# Altium schematic symbol library Capacitors.SchLib: 104 symbols (part 1 of 2)
Pins are listed as number, name and electrical type; pins without a type are passive.

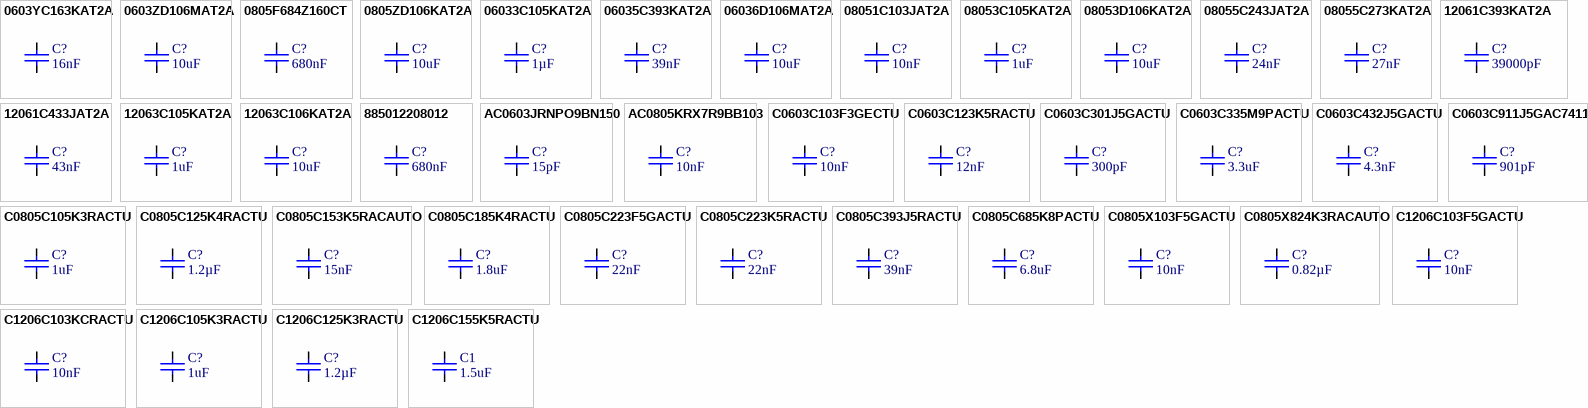
[diagram p0: symbols 0603YC163KAT2A to C1206C155K5RACTU]

## 0603YC163KAT2A
designator C?, comment 16nF
CAP MLCC, 16nF, 16V, 0603 [1608 metric], ±10%, X7R; Manufacturer: AVX; Manufacturer Part Number: 0603YC163KAT2A; Value: 16nF; Package: CAP 0603 [1608 metric]; Supplier 1: Mouser; Supplier Part Number 1: 581-0603YC163KAT2A; ComponentLink1Description: Datasheet; ComponentLink1URL: https://eu.mouser.com/ProductDetail/AVX/0603YC163KAT2A/?qs=gEbkM7q0lx%2FiqWf%2Fv%252BwDUg%3D%3D; Voltage: 16V; Tolerance: ±10%; Dielectric: X7R
footprint CAPC1608N (Chip Capacitor, Body 1.6x0.8mm, Height 0.55mm, IPC Medium Density)
pins: 1, 2

## 0603ZD106MAT2A
designator C?, comment 10uF
CAP MLCC, 10uF, 10V, 0603 [1608 Metric], ±20%, X5R; Manufacturer: AVX; Manufacturer Part Number: 0603ZD106MAT2A; Value: 10uF; Package: 0603 [1608 Metric]; Supplier 1: Farnell; Supplier Part Number 1: 1867954; ComponentLink1Description: Datasheet; ComponentLink1URL: http://www.farnell.com/datasheets/2237828.pdf; Voltage: 10V; Tolerance: ± 20%; Dielectric: X5R; Mounting: SMD; Part Type: MLCC
footprint CAPC1608N (Footprint not found)
pins: 1, 2

## 0805F684Z160CT
designator C?, comment 680nF
CAP MLCC, 680nF, 16V, 0805 [2012 Metric], +80%, -20%, Y5V; Manufacturer: WALSIN; Manufacturer Part Number: 0805F684Z160CT; Value: 680nF; Package: 0805 [2012 Metric]; Supplier 1: Farnell; Supplier Part Number 1: 2495504; ComponentLink1Description: Datasheet; ComponentLink1URL: https://lt.farnell.com/walsin/0805f684z160ct/cap-0-68-f-16v-y5v-0805-reel/dp/2495504; Voltage: 16V; Tolerance: +80%, -20%; Dielectric: Y5V; Mounting: SMD; Part Type: MLCC
footprint CAPC2012N (Chip Capacitor, Body 2.0x1.25mm, IPC Medium Density)
pins: 1, 2

## 0805ZD106KAT2A
designator C?, comment 10uF
CAP MLCC, 10uF, 10V, 0805 [2012 Metric], ±10%, X5R; Manufacturer: AVX; Manufacturer Part Number: 0805ZD106KAT2A; Value: 10uF; Package: 0805 [2012 Metric]; Supplier 1: Farnell; Supplier Part Number 1: 1833812; ComponentLink1Description: Datasheet; ComponentLink1URL: http://www.farnell.com/datasheets/2237828.pdf; Voltage: 10V; Tolerance: ± 10%; Dielectric: X5R; Mounting: SMD; Part Type: MLCC
footprint CAPC2012N (Chip Capacitor, Body 2.0x1.25mm, IPC Medium Density)
pins: 1, 2

## 06033C105KAT2A
designator C?, comment 1µF
CAP MLCC, 1uF, 25V, 0603 [1608 Metric], ±10%, X7R; Manufacturer: AVX; Manufacturer Part Number: 06033C105KAT2A; Value: 1µF; Package: 0603 [1608 Metric]; Supplier 1: Farnell; Supplier Part Number 1: 2749807; ComponentLink1Description: http://www.farnell.com/datasheets/2260754.pdf; ComponentLink1URL: https://lt.farnell.com/avx/06033c105kat2a/cap-1-f-25v-10-x7r-0603/dp/2749807?st=cap%20mlcc,%20750nf,%2025v,%200603%20[1608%20metric],%20±10%25,%20x7r; Voltage: 25V; Tolerance: ± 10%; Dielectric: X7R; Mounting: SMD; Part Type: MLCC
footprint CAPC1608N (Chip Capacitor, Body 1.6x0.8mm, Height 0.55mm, IPC Medium Density)
pins: 1, 2

## 06035C393KAT2A
designator C?, comment 39nF
CAP MLCC, 39nF, 50V, 0603 [1608 Metric], ± 10%, X7R, AVX 0603 MLCC; Manufacturer Part Number: 06035C393KAT2A; Value: 39nF; Package: CAP 0603 [1608 metric]; Manufacturer: AVX; Supplier 1: Farnell; Supplier Part Number 1: 1740619; ComponentLink1Description: http://www.farnell.com/datasheets/2237835.pdf; ComponentLink1URL: https://uk.farnell.com/avx/06035c393kat2a/cap-0-039-f-50v-10-x7r-0603/dp/1740619#; Voltage: 50V; Tolerance: ± 10%; Dielectric: X7R
footprint CAPC1608N (Chip Capacitor, Body 1.6x0.8mm, Height 0.55mm, IPC Medium Density)
pins: 1, 2

## 06036D106MAT2A
designator C?, comment 10uF
CAP MLCC, 10uF, 6.3V, 0603 [1608 Metric], ±20%, X7R; Manufacturer: AVX; Manufacturer Part Number: 06036D106MAT2A; Value: 10uF; Package: 0603 [1608 Metric]; Supplier 1: Farnell; Supplier Part Number 1: 1833804; ComponentLink1Description: Datasheet; ComponentLink1URL: https://lt.farnell.com/avx/06036d106mat2a/cap-10-f-6-3v-20-x5r-0603/dp/1833804?st=smd%20capacitor; Voltage: 6.3V; Tolerance: ± 20%; Dielectric: X7R; Mounting: SMD; Part Type: MLCC
footprint CAPC1608N (Chip Capacitor, Body 1.6x0.8mm, Height 0.55mm, IPC Medium Density)
pins: 1, 2

## 08051C103JAT2A
designator C?, comment 10nF
CAP MLCC, 10nF, 100V, 0805 [2012 Metric], ±5%, X7R; Manufacturer: AVX; Manufacturer Part Number: 08051C103JAT2A; Value: 10nF; Package: 0805 [2012 Metric]; Supplier 1: Farnell; Supplier Part Number 1: 2332713; ComponentLink1Description: Datasheet; ComponentLink1URL: http://www.farnell.com/datasheets/2237835.pdf; Voltage: 100V; Tolerance: ± 5%; Dielectric: X7R; Mounting: SMD; Part Type: MLCC
footprint CAPC2012N (Chip Capacitor, Body 2.0x1.25mm, IPC Medium Density)
pins: 1, 2

## 08053C105KAT2A
designator C?, comment 1uF
CAP MLCC, 1uF, 25V, 0805 [2012 Metric], ±10%, X7R; Manufacturer: AVX; Manufacturer Part Number: 08053C105KAT2A; Value: 1uF; Package: 0805 [2012 Metric]; Supplier 1: Farnell; Supplier Part Number 1: 1658877; ComponentLink1Description: http://www.farnell.com/datasheets/2237835.pdf; ComponentLink1URL: https://lt.farnell.com/avx/08053c105kat2a/cap-1-f-25v-10-x7r-0805/dp/1658877?st=cap%20mlcc,%20750nf,%2025v,%200805%20[2012%20metric],%20±10%25,%20x7r; Voltage: 25V; Tolerance: ± 10%; Dielectric: X7R; Mounting: SMD; Part Type: MLCC
footprint CAPC2012N (Chip Capacitor, Body 2.0x1.25mm, IPC Medium Density)
pins: 1, 2

## 08053D106KAT2A
designator C?, comment 10uF
CAP MLCC, 10uF, 25V, 0805 [2012 Metric], ±10%, X7R; Manufacturer: AVX; Manufacturer Part Number: 08053D106KAT2A; Value: 10uF; Package: 0805 [2012 Metric]; Supplier 1: Farnell; Supplier Part Number 1: 1867958; ComponentLink1Description: Datasheet; ComponentLink1URL: https://lt.farnell.com/avx/08053d106kat2a/cap-10-f-25v-10-x5r-0805/dp/1867958?st=smd%20capacitor; Voltage: 25V; Tolerance: ± 10%; Dielectric: X7R; Mounting: SMD; Part Type: MLCC
footprint CAPC2012N (Chip Capacitor, Body 2.0x1.25mm, IPC Medium Density)
pins: 1, 2

## 08055C243JAT2A
designator C?, comment 24nF
CAP MLCC, 24nF, 50V, 0805 [2012 Metric], ±5%, X7R; Manufacturer: AVX; Manufacturer Part Number: 08055C243JAT2A; Value: 24nF; Package: 0805 [2012 Metric]; Supplier 1: Mouser; Supplier Part Number 1: 581-08055C243JAT2A; ComponentLink1Description: Datasheet; ComponentLink1URL: https://eu.mouser.com/ProductDetail/AVX/08055C243JAT2A/?qs=sGAEpiMZZMuMW9TJLBQkXsc7mecWxmGaZ7S9zCM%2FAxU%3D; Voltage: 50V; Tolerance: ± 5%; Dielectric: X7R; Mounting: SMD; Part Type: MLCC
footprint CAPC2012N (Footprint not found)
pins: 1, 2

## 08055C273KAT2A
designator C?, comment 27nF
CAP MLCC, 27nF, 50V, 0805 [2012 Metric], ±10%, X7R; Manufacturer: AVX; Manufacturer Part Number: 08055C273KAT2A; Value: 27nF; Package: 0805 [2012 Metric]; Supplier 1: Farnell; Supplier Part Number 1: 2332799; ComponentLink1Description: Datasheet; ComponentLink1URL: http://www.farnell.com/datasheets/2237835.pdf; Voltage: 50V; Tolerance: ± 10%; Dielectric: X7R; Mounting: SMD; Part Type: MLCC
footprint CAPC2012N (Chip Capacitor, Body 2.0x1.25mm, IPC Medium Density)
pins: 1, 2

## 12061C393KAT2A
designator C?, comment 39000pF
CAP MLCC, 39nF, 100V, 1206 [3216 Metric], ± 10%, X7R, AVX 1206 MLCC; Manufacturer Part Number: 12061C393KAT2A; Value: 39000pF; Package: 1206 [3216 metric]; Manufacturer: AVX; Supplier 1: Farnell; Supplier Part Number 1: 1740717RL; ComponentLink1Description: http://www.farnell.com/datasheets/2237835.pdf; ComponentLink1URL: https://uk.farnell.com/avx/12061c393kat2a/cap-0-039-f-100v-10-x7r-1206/dp/1740717#; Voltage: 100V; Tolerance: ± 10%; Dielectric: X7R
footprint CAPC3216N (Chip Capacitor, Body 3.2x1.6mm, IPC Medium Density)
pins: 1, 2

## 12061C433JAT2A
designator C?, comment 43nF
CAP MLCC, 43nF, 100V, 1206 [3216 Metric], ± 5%, X7R; Manufacturer: AVX; Manufacturer Part Number: 12061C433JAT2A; Value: 43nF; Package: 1206 [3216 metric]; Supplier 1: Mouser; Supplier Part Number 1: 581-12061C433JAT2A; ComponentLink1Description: Datasheet; ComponentLink1URL: https://eu.mouser.com/ProductDetail/AVX/12061C433JAT2A?qs=%2Fha2pyFaduhwE6IPDF2HUvDWpTZUyWvSnpCS%252BYvTRJBCSMPxIuiRLQ%3D%3D&utm_source=octopart&utm_medium=aggregator&utm_campaign=581-12061C433JAT2A&utm_content=AVX; Voltage: 100V; Tolerance: 5 %; Dielectric: X7R; Mounting: SMD; Part Type: MLCC
footprint CAPC3216N (Chip Capacitor, Body 3.2x1.6mm, IPC Medium Density)
pins: 1, 2

## 12063C105KAT2A
designator C?, comment 1uF
CAP MLCC, 1uF, 25V, 1206 [3216 Metric], ±10%, X7R; Manufacturer: AVX; Manufacturer Part Number: 12063C105KAT2A; Value: 1uF; Package: 1206 [3216 Metric]; Supplier 1: Farnell; Supplier Part Number 1: 1327717; ComponentLink1Description: https://4donline.ihs.com/images/VipMasterIC/IC/AVXC/AVXC-S-A0004824845/AVXC-S-A0004824845-1.pdf?hkey=6D3A4C79FDBF58556ACFDE234799DDF0; ComponentLink1URL: https://lt.farnell.com/avx/12063c105kat2a/cap-1-f-25v-10-x7r-1206/dp/1327717?st=cap%20mlcc,%20750f,%2025v,%201206%20[3216%20metric],%20±10%25,%20x7r; Voltage: 25V; Tolerance: ± 10%; Dielectric: X7R; Mounting: SMD; Part Type: MLCC
footprint CAPC3216N (Chip Capacitor, Body 3.2x1.6mm, IPC Medium Density)
pins: 1, 2

## 12063C106KAT2A
designator C?, comment 10uF
CAP MLCC, 10uF, 25V, 1206 [3216 Metric], ±10%, X7R; Manufacturer: AVX; Manufacturer Part Number: 12063C106KAT2A; Value: 10uF; Package: 1206 [3216 Metric]; Supplier 1: Farnell; Supplier Part Number 1: 2094044; ComponentLink1Description: Datasheet; ComponentLink1URL: http://www.farnell.com/datasheets/2260753.pdf; Voltage: 25V; Tolerance: ± 10%; Dielectric: X7R; Mounting: SMD; Part Type: MLCC
footprint CAPC3216N (Chip Capacitor, Body 3.2x1.6mm, IPC Medium Density)
pins: 1, 2

## 885012208012
designator C?, comment 680nF
CAP MLCC, 680nF, 10V, 1206 [3216 Metric], ±10%, X7R; Manufacturer: WURTH ELEKTRONIK; Manufacturer Part Number: 885012208012; Value: 680nF; Package: 1206 [3216 Metric]; Supplier 1: Farnell; Supplier Part Number 1: 2812450; ComponentLink1Description: Datasheet; ComponentLink1URL: https://lt.farnell.com/wurth-elektronik/885012208012/cap-0-68-f-10v-10-x7r-1206/dp/2812450; Voltage: 10V; Tolerance: ± 10%; Dielectric: X7R; Mounting: SMD; Part Type: MLCC
footprint CAPC3216N (Chip Capacitor, Body 3.2x1.6mm, IPC Medium Density)
pins: 1, 2

## AC0603JRNPO9BN150
designator C?, comment 15pF
CAP MLCC, 15pF, 50V, 0603 [1608 Metric], ±5%, X7R; Manufacturer: YAGEO; Manufacturer Part Number: AC0603JRNPO9BN150; Value: 15pF; Package: 0603 [1608 Metric]; Supplier 1: Farnell; Supplier Part Number 1: 3368986; ComponentLink1Description: Datasheet; ComponentLink1URL: http://www.farnell.com/datasheets/2899221.pdf; Voltage: 50V; Tolerance: ± 5%; Dielectric: X7R; Mounting: SMD; Part Type: MLCC
footprint CAPC1608N (Footprint not found)
pins: 1, 2

## AC0805KRX7R9BB103
designator C?, comment 10nF
CAP MLCC, 10nF, 50V, 0805 [2012 Metric], ±10%, X7R; Manufacturer: YAGEO; Manufacturer Part Number: AC0805KRX7R9BB103; Value: 10nF; Package: 0805 [2012 Metric]; Supplier 1: Farnell; Supplier Part Number 1: 3369005; ComponentLink1Description: Datasheet; ComponentLink1URL: http://www.farnell.com/datasheets/2899221.pdf; Voltage: 50V; Tolerance: ± 10%; Dielectric: X7R; Mounting: SMD; Part Type: MLCC
footprint CAPC2012N (Footprint not found)
pins: 1, 2

## C0603C103F3GECTU
designator C?, comment 10nF
CAP MLCC, 10nF, 25V, 0603 [1608 metric], ±1%, C0G / NP0; Manufacturer: KEMET; Manufacturer Part Number: C0603C103F3GECTU; Value: 10nF; Package: 0603 [1608 metric]; Supplier 1: Farnell; Supplier Part Number 1: 2991228; ComponentLink1Description: Datasheet; ComponentLink1URL: https://api.kemet.com/component-edge/download/specsheet/C0603C103F3GECTU.pdf; Voltage: 25V; Tolerance: ±1%; Dielectric: C0G / NP0; Mounting: SMD; Part Type: MLCC
footprint CAPC1608N (Chip Capacitor, Body 1.6x0.8mm, Height 0.55mm, IPC Medium Density)
pins: 1, 2

## C0603C123K5RACTU
designator C?, comment 12nF
CAP MLCC, 12nF, 50V, 0603 [1608 Metric], ±10%, X7R; Manufacturer: KEMET; Manufacturer Part Number: C0603C123K5RACTU; Value: 12nF; Package: 0603 [1608 Metric]; Supplier 1: Farnell; Supplier Part Number 1: 1865534; ComponentLink1Description: Datasheet; ComponentLink1URL: https://lt.farnell.com/kemet/c0603c123k5ractu/cap-0-012-f-50v-10-x7r-0603/dp/1865534?st=0603; Voltage: 50V; Tolerance: ± 10%; Dielectric: X7R; Mounting: SMD; Part Type: MLCC
footprint CAPC1608N (Chip Capacitor, Body 1.6x0.8mm, Height 0.55mm, IPC Medium Density)
pins: 1, 2

## C0603C301J5GACTU
designator C?, comment 300pF
CAP MLCC, 300pF, 50V, 0603 [1608 Metric], ±5%, C0G/NP0; Manufacturer: KEMET; Manufacturer Part Number: C0603C301J5GACTU; Value: 300pF; Package: 0603 [1608 Metric]; Supplier 1: Farnell; Supplier Part Number 1: 2773150; ComponentLink1Description: Datasheet; ComponentLink1URL: https://api.kemet.com/component-edge/download/specsheet/C0603C301J5GACTU.pdf; Voltage: 50V; Tolerance: ±5%; Dielectric: C0G/NP0; Mounting: SMD; Part Type: MLCC
footprint CAPC1608N (Chip Capacitor, Body 1.6x0.8mm, Height 0.55mm, IPC Medium Density)
pins: 1, 2

## C0603C335M9PACTU
designator C?, comment 3.3uF
CAP MLCC, 3.3uF, 6.3V, 0603 [1608 Metric], ±20%, X5R; Manufacturer: KEMET; Manufacturer Part Number: C0603C335M9PACTU; Value: 3.3uF; Package: 0603 [1608 Metric]; Supplier 1: Farnell; Supplier Part Number 1: 1108324; ComponentLink1Description: Datasheet; ComponentLink1URL: https://api.kemet.com/component-edge/download/specsheet/C0603C335M9PACTU.pdf; Voltage: 6.3V; Tolerance: ± 20%; Dielectric: X5R; Mounting: SMD; Part Type: MLCC
footprint CAPC1608N (Chip Capacitor, Body 1.6x0.8mm, Height 0.55mm, IPC Medium Density)
pins: 1, 2

## C0603C432J5GACTU
designator C?, comment 4.3nF
CAP MLCC, 4.3nF, 50V, 0603 [1608 Metric], ±5%, C0G / NP0; Manufacturer: KEMET; Manufacturer Part Number: C0603C432J5GACTU; Value: 4.3nF; Package: 0603 [1608 Metric]; Supplier 1: Farnell; Supplier Part Number 1: 1865494; ComponentLink1Description: Datasheet; ComponentLink1URL: https://api.kemet.com/component-edge/download/specsheet/C0603C432J5GACTU.pdf; Voltage: 50V; Tolerance: ± 5%; Dielectric: C0G / NP0; Mounting: SMD; Part Type: MLCC
footprint CAPC1608N (Chip Capacitor, Body 1.6x0.8mm, Height 0.55mm, IPC Medium Density)
pins: 1, 2

## C0603C911J5GAC7411
designator C?, comment 901pF
CAP MLCC, 901pF, 50V, 0603 [1608 Metric], ±5%, C0G/NP0; Manufacturer: KEMET; Manufacturer Part Number: C0603C911J5GAC7411; Value: 901pF; Package: 0603 [1608 Metric]; Supplier 1: Farnell; Supplier Part Number 1: 3509649; ComponentLink1Description: Datasheet; ComponentLink1URL: https://api.kemet.com/component-edge/download/specsheet/C0603C911J5GAC7411.pdf; Voltage: 50V; Tolerance: ±5%; Dielectric: C0G/NP0; Mounting: SMD; Part Type: MLCC
footprint CAPC1608N (Chip Capacitor, Body 1.6x0.8mm, Height 0.55mm, IPC Medium Density)
pins: 1, 2

## C0805C105K3RACTU
designator C?, comment 1uF
CAP MLCC, 1uF, 25V, 0805 [2012 Metric], ±10%, X7R; Manufacturer: KEMET; Manufacturer Part Number: C0805C105K3RACTU; Value: 1uF; Package: 0805 [2012 Metric]; Supplier 1: Farnell; Supplier Part Number 1: 1637035; ComponentLink1Description: Datasheet; ComponentLink1URL: https://api.kemet.com/component-edge/download/specsheet/C0805C105K3RACTU.pdf; Voltage: 25V; Tolerance: ± 10%; Dielectric: X7R; Mounting: SMD; Part Type: MLCC
footprint CAPC2012N (Chip Capacitor, Body 2.0x1.25mm, IPC Medium Density)
pins: 1, 2

## C0805C125K4RACTU
designator C?, comment 1.2µF
CAP MLCC, 1.2uF, 25V, 0805 [2012 Metric], ±10%, X7R; Manufacturer: KEMET; Manufacturer Part Number: C0805C125K4RACTU; Voltage: 16V; Value: 1.2µF; Package: 0805 [2012 Metric]; Supplier 1: Farnel; Supplier Part Number 1: 1907064; ComponentLink1Description: Datasheet; ComponentLink1URL: https://uk.farnell.com/kemet/c0805c125k4ractu/cap-1-2-f-16v-10-x7r-0805/dp/1907064?st=smd; Tolerance: ± 10%; Dielectric: X7R; Mounting: SMD; Part Type: MLCC
footprint CAPC2012N (Chip Capacitor, Body 2.0x1.25mm, IPC Medium Density)
pins: 1, 2

## C0805C153K5RACAUTO
designator C?, comment 15nF
CAP MLCC, 15nF, 50V, 0805 [2012 Metric], ± 10%, X7R; Manufacturer: AVX; Manufacturer Part Number: C0805C153K5RACAUTO; Value: 15nF; Package: 0805 [2012 metric]; Supplier 1: Farnell; Supplier Part Number 1: 2520755; ComponentLink1Description: Datasheet; ComponentLink1URL: https://uk.farnell.com/kemet/c0805c153k5racauto/cap-0-015-f-50v-10-x7r-0805/dp/2520755; Voltage: 50V; Tolerance: ±10%; Dielectric: X7R
footprint CAPC2012N (Chip Capacitor, Body 2.0x1.25mm, IPC Medium Density)
pins: 1, 2

## C0805C185K4RACTU
designator C?, comment 1.8uF
CAP MLCC, 1.8uF, 16V, 0805 [2012 Metric], ±10%, X7R; Manufacturer: KEMET; Manufacturer Part Number: C0805C185K4RACTU; Value: 1.8uF; Package: 0805 [2012 Metric]; Supplier 1: Farnell; Supplier Part Number 1: 1907066; ComponentLink1Description: Datasheet; ComponentLink1URL: https://api.kemet.com/component-edge/download/specsheet/C0805C185K4RACTU.pdf; Voltage: 16V; Tolerance: ± 10%; Dielectric: X7R; Mounting: SMD; Part Type: MLCC
footprint CAPC2012N (Chip Capacitor, Body 2.0x1.25mm, IPC Medium Density)
pins: 1, 2

## C0805C223F5GACTU
designator C?, comment 22nF
CAP MLCC, 22nF, 50V, 0805 [2012 metric], ±5%, X7R; Manufacturer: MULTICOMP PRO; Manufacturer Part Number: C0805C223F5GACTU; Value: 22nF; Package: 0805 [2012 metric]; Supplier 1: Farnell; Supplier Part Number 1: 2320841; ComponentLink1Description: Datasheet; ComponentLink1URL: http://www.farnell.com/datasheets/1870456.pdf; Voltage: 50V; Tolerance: ± 5%; Dielectric: X7R; Mounting: SMD; Part Type: MLCC
footprint CAPC2012N (Chip Capacitor, Body 2.0x1.25mm, IPC Medium Density)
pins: 1, 2

## C0805C223K5RACTU
designator C?, comment 22nF
CAP MLCC, 22nF, 50V, 0805 [2012 Metric], ±10%, X7R; Manufacturer: KEMET; Manufacturer Part Number: C0805C223K5RACTU; Value: 22nF; Package: 0805 [2012 Metric]; Supplier 1: Farnell; Supplier Part Number 1: 1414682; ComponentLink1Description: Datasheet; ComponentLink1URL: http://www.farnell.com/datasheets/2740693.pdf; Voltage: 50V; Tolerance: ± 10%; Dielectric: X7R; Mounting: SMD; Part Type: MLCC
footprint CAPC2012N (Chip Capacitor, Body 2.0x1.25mm, IPC Medium Density)
pins: 1, 2

## C0805C393J5RACTU
designator C?, comment 39nF
CAP MLCC, 39nF, 50 V, 0805 [2012 Metric], ± 5%, X7R, C Series KEMET; Manufacturer Part Number: C0805C393J5RACTU; Voltage: 50V; Value: 39nF; Package: 0805 [2012 metric]; Manufacturer: KEMET; Supplier 1: Farnell; Supplier Part Number 1: 2905275; ComponentLink1Description: https://api.kemet.com/component-edge/download/specsheet/C0805C393J5RACTU.pdf; ComponentLink1URL: https://uk.farnell.com/kemet/c0805c393j5ractu/cap-0-039-f-50v-5-x7r-0805/dp/2905275#; Tolerance: ± 5%; Dielectric: X7R
footprint CAPC2012N (Chip Capacitor, Body 2.0x1.25mm, IPC Medium Density)
pins: 1, 2

## C0805C685K8PACTU
designator C?, comment 6.8uF
CAP MLCC, 6.8uF, 10V, 0805 [2012 Metric], ±10%, X5R; Manufacturer: KEMET; Manufacturer Part Number: C0805C685K8PACTU; Value: 6.8uF; Package: 0805 [2012 Metric]; Supplier 1: Farnell; Supplier Part Number 1: 1572632; ComponentLink1Description: Datasheet; ComponentLink1URL: https://api.kemet.com/component-edge/download/specsheet/C0805C685K8PACTU.pdf; Voltage: 10V; Tolerance: ± 10%; Dielectric: X5R; Mounting: SMD; Part Type: MLCC
footprint CAPC2012N (Chip Capacitor, Body 2.0x1.25mm, IPC Medium Density)
pins: 1, 2

## C0805X103F5GACTU
designator C?, comment 10nF
CAP MLCC, 10nF, 50V, 0805 [2012 metric], ±1%, C0G / NP0; Manufacturer: KEMET; Manufacturer Part Number: C0805X103F5GACTU; Value: 10nF; Package: 0805 [2012 metric]; Supplier 1: Farnell; Supplier Part Number 1: 2905558; ComponentLink1Description: Datasheet; ComponentLink1URL: https://api.kemet.com/component-edge/download/specsheet/C0805X103F5GACTU.pdf; Voltage: 50V; Tolerance: ±1%; Dielectric: C0G / NP0; Mounting: SMD; Part Type: MLCC
footprint CAPC2012N (Chip Capacitor, Body 2.0x1.25mm, IPC Medium Density)
pins: 1, 2

## C0805X824K3RACAUTO
designator C?, comment 0.82µF
CAP MLCC, 0.82µF, 25V, 0805 [2012 Metric], ±10%, X7R; Manufacturer: KEMET; Manufacturer Part Number: C0805X824K3RACAUTO; Value: 0.82µF; Package: 0805 [2012 Metric]; Supplier 1: Farnell; Supplier Part Number 1: 3511341; ComponentLink1Description: https://api.kemet.com/component-edge/download/specsheet/C0805X824K3RACAUTO.pdf; ComponentLink1URL: https://lt.farnell.com/kemet/c0805x824k3racauto/cap-aec-q200-0-82uf-25v-mlcc-0805/dp/3511341?st=cap%20mlcc,%20820nf,%2025v,%200805%20[2012%20metric],%20±10%25,%20x7r; Voltage: 25V; Tolerance: ± 10%; Dielectric: X7R; Mounting: SMD; Part Type: MLCC
footprint CAPC2012N (Chip Capacitor, Body 2.0x1.25mm, IPC Medium Density)
pins: 1, 2

## C1206C103F5GACTU
designator C?, comment 10nF
CAP MLCC, 10nF, 25V, 1206 [3216 metric], ±1%, C0G / NP0; Manufacturer: KEMET; Manufacturer Part Number: C1206C103F5GACTU; Voltage: 50V; Value: 10nF; Package: 1206 [3216 metric]; Supplier 1: Farnell; Supplier Part Number 1: 2943386; ComponentLink1Description: Datasheet; ComponentLink1URL: https://api.kemet.com/component-edge/download/specsheet/C1206C103F5GACTU.pdf; Tolerance: ±1%; Dielectric: C0G / NP0; Mounting: SMD; Part Type: MLCC
footprint CAPC3216N (Chip Capacitor, Body 3.2x1.6mm, IPC Medium Density)
pins: 1, 2

## C1206C103KCRACTU
designator C?, comment 10nF
CAP MLCC, 10nF, 500V, 1206 [3216 Metric], ±10%, X7R; Manufacturer: KEMET; Manufacturer Part Number: C1206C103KCRACTU; Value: 10nF; Package: 1206 [3216 Metric]; Supplier 1: Farnell; Supplier Part Number 1: 1288241; ComponentLink1Description: Datasheet; ComponentLink1URL: https://api.kemet.com/component-edge/download/specsheet/C1206C103KCRACTU.pdf; Voltage: 500V; Tolerance: ± 10%; Dielectric: X7R; Mounting: SMD; Part Type: MLCC
footprint CAPC3216N (Footprint not found)
pins: 1, 2

## C1206C105K3RACTU
designator C?, comment 1uF
CAP MLCC, 1uF, 25V, 1206 [3216 Metric], ±10%, X7R; Manufacturer: KEMET; Manufacturer Part Number: C1206C105K3RACTU; Value: 1uF; Package: 1206 [3216 Metric]; Supplier 1: Farnell; Supplier Part Number 1: 9227865; ComponentLink1Description: Datasheet; ComponentLink1URL: https://api.kemet.com/component-edge/download/specsheet/C1206C105K3RACTU.pdf; Voltage: 25V; Tolerance: ± 10%; Dielectric: X7R; Mounting: SMD; Part Type: MLCC
footprint CAPC3216N (Chip Capacitor, Body 3.2x1.6mm, IPC Medium Density)
pins: 1, 2

## C1206C125K3RACTU
designator C?, comment 1.2µF
CAP MLCC, 1.2uF, 25V, 1206 [3216 Metric], ±10%, X7R; Manufacturer: KEMET; Manufacturer Part Number: C1206C125K3RACTU; Value: 1.2µF; Package: 1206 [3216 Metric]; Supplier 1: Farnel; Supplier Part Number 1: 2905771RL; ComponentLink1Description: Datasheet; ComponentLink1URL: https://uk.farnell.com/kemet/c1206c125k3ractu/cap-1-2-f-25v-10-x7r-1206/dp/2905771RL?st=smd; Voltage: 25V; Tolerance: ± 10%; Dielectric: X7R; Mounting: SMD; Part Type: MLCC
footprint CAPC3216N (Chip Capacitor, Body 3.2x1.6mm, IPC Medium Density)
pins: 1, 2

## C1206C155K5RACTU
designator C1, comment 1.5uF
CAP MLCC, 1.5uF, 25V, 1206 [3216 Metric], ±10%, X7R; Manufacturer: KEMET; Manufacturer Part Number: C1206C155K5RACTU; Voltage: 50V; Value: 1.5uF; Package: 1206 [3216 Metric]; Supplier 1: Farnell; Supplier Part Number 1: 2820945; ComponentLink1Description: Datasheet; ComponentLink1URL: https://api.kemet.com/component-edge/download/specsheet/C1206C155K5RACTU.pdf; Tolerance: ± 10%; Dielectric: X7R; Mounting: SMD; Part Type: MLCC
footprint CAPC3216N (Chip Capacitor, Body 3.2x1.6mm, IPC Medium Density)
pins: 1, 2

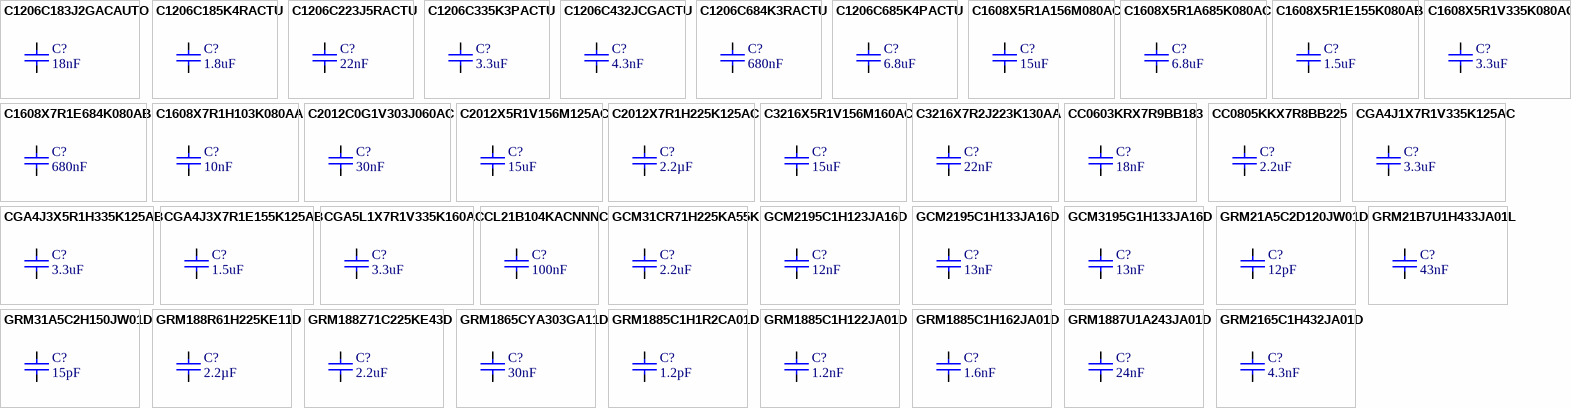
[diagram p1: symbols C1206C183J2GACAUTO to GRM2165C1H432JA01D]

## C1206C183J2GACAUTO
designator C?, comment 18nF
CAP MLCC, 18nF, 200V, 1206 [3216 Metric], ± 5%, C0G / NP0; Manufacturer: KEMET; Manufacturer Part Number: C1206C183J2GACAUTO; Value: 18nF; Package: 1206 [3216 metric]; Supplier 1: Farnell; Supplier Part Number 1: 2426902; ComponentLink1Description: https://api.kemet.com/component-edge/download/specsheet/C1206C183J2GACAUTO.pdf; ComponentLink1URL: https://lt.farnell.com/kemet/c1206c183j2gacauto/cap-0-018-f-200v-5-c0g-np0-1206/dp/2426902?ost=2426902&iscrfnonsku=false; Voltage: 200V; Tolerance: ± 5%; Dielectric: C0G / NP0; Mounting: SMD; Part Type: MLCC
footprint CAPC3216N (Chip Capacitor, Body 3.2x1.6mm, IPC Medium Density)
pins: 1, 2

## C1206C185K4RACTU
designator C?, comment 1.8uF
CAP MLCC, 1.8uF, 16V, 1206 [3216 Metric], ±10%, X7R; Manufacturer: KEMET; Manufacturer Part Number: C1206C185K4RACTU; Value: 1.8uF; Package: 1206 [3216 Metric]; Supplier 1: Farnell; Supplier Part Number 1: 2905782; ComponentLink1Description: Datasheet; ComponentLink1URL: https://api.kemet.com/component-edge/download/specsheet/C1206C185K4RACTU.pdf; Voltage: 16V; Tolerance: ± 10%; Dielectric: X7R; Mounting: SMD; Part Type: MLCC
footprint CAPC3216N (Chip Capacitor, Body 3.2x1.6mm, IPC Medium Density)
pins: 1, 2

## C1206C223J5RACTU
designator C?, comment 22nF
CAP MLCC, 22nF, 50V, 1206 [3216 metric], ±5%, X7R; Manufacturer: KEMET; Manufacturer Part Number: C1206C223J5RACTU; Value: 22nF; Package: 1206 [3216 metric]; Supplier 1: Farnell; Supplier Part Number 1: 2905795; ComponentLink1Description: Datasheet; ComponentLink1URL: https://api.kemet.com/component-edge/download/specsheet/C1206C223J5RACTU.pdf; Voltage: 50V; Tolerance: ± 5%; Dielectric: X7R; Mounting: SMD; Part Type: MLCC
footprint CAPC3216N (Chip Capacitor, Body 3.2x1.6mm, IPC Medium Density)
pins: 1, 2

## C1206C335K3PACTU
designator C?, comment 3.3uF
CAP MLCC, 3.3uF, 25V, 1206 [3216 Metric], ±10%, X5R; Manufacturer: KEMET; Manufacturer Part Number: C1206C335K3PACTU; Value: 3.3uF; Package: 1206 [3216 Metric]; Supplier 1: Farnell; Supplier Part Number 1: 2773330; ComponentLink1Description: Datasheet; ComponentLink1URL: https://api.kemet.com/component-edge/download/specsheet/C1206C335K3PACTU.pdf; Voltage: 25V; Tolerance: ± 10%; Dielectric: X5R; Mounting: SMD; Part Type: MLCC
footprint CAPC3216N (Chip Capacitor, Body 3.2x1.6mm, IPC Medium Density)
pins: 1, 2

## C1206C432JCGACTU
designator C?, comment 4.3nF
CAP MLCC, 4.3nF, 500V, 1206 [3216 Metric], ±5%, C0G / NP0; Manufacturer: KEMET; Manufacturer Part Number: C1206C432JCGACTU; Value: 4.3nF; Package: 1206 [3216 Metric]; Supplier 1: Farnell; Supplier Part Number 1: 3503361; ComponentLink1Description: Datasheet; ComponentLink1URL: https://api.kemet.com/component-edge/download/specsheet/C1206C432JCGACTU.pdf; Voltage: 500V; Tolerance: ± 5%; Dielectric: C0G / NP0; Mounting: SMD; Part Type: MLCC
footprint CAPC3216N (Chip Capacitor, Body 3.2x1.6mm, IPC Medium Density)
pins: 1, 2

## C1206C684K3RACTU
designator C?, comment 680nF
CAP MLCC, 680nF, 25V, 1206 [3216 Metric], ±10%, X7R; Manufacturer: KEMET; Manufacturer Part Number: C1206C684K3RACTU; Value: 680nF; Package: 1206 [3216 Metric]; Supplier 1: Farnell; Supplier Part Number 1: 2522524; ComponentLink1Description: https://api.kemet.com/component-edge/download/specsheet/C1206C684K3RACTU.pdf; ComponentLink1URL: https://lt.farnell.com/kemet/c1206c684k3ractu/cap-0-68-f-25v-10-x7r-1206/dp/2522524?st=cap%20mlcc,%20680nf,%2025v,%201206%20[3216%20metric],%20±10%25,%20x7r; Voltage: 25V; Tolerance: ± 10%; Dielectric: X7R; Mounting: SMD; Part Type: MLCC
footprint CAPC3216N (Chip Capacitor, Body 3.2x1.6mm, IPC Medium Density)
pins: 1, 2

## C1206C685K4PACTU
designator C?, comment 6.8uF
CAP MLCC, 6.8 µF, 16 V, 1206 [3216 Metric], ± 10%, X5R; Manufacturer: KEMET; Manufacturer Part Number: C1206C685K4PACTU; Voltage: 16V; Value: 6.8uF; Package: 1206 [3216 Metric]; Supplier 1: Farnell; Supplier Part Number 1: 1572638; ComponentLink1Description: Datasheet; ComponentLink1URL: https://api.kemet.com/component-edge/download/specsheet/C1206C685K4PACTU.pdf; Tolerance: ± 10%; Dielectric: X5R; Mounting: SMD; Part Type: MLCC
footprint CAPC3216N (Chip Capacitor, Body 3.2x1.6mm, IPC Medium Density)
pins: 1, 2

## C1608X5R1A156M080AC
designator C?, comment 15uF
CAP MLCC, 15uF, 10V, 0603 [1608 Metric], ±20%, X5R; Manufacturer: TDK; Manufacturer Part Number: C1608X5R1A156M080AC; Value: 15uF; Package: 0603 [1608 Metric]; Supplier 1: Farnell; Supplier Part Number 1: 3416097; ComponentLink1Description: Datasheet; ComponentLink1URL: http://www.farnell.com/datasheets/2859305.pdf; Voltage: 10V; Tolerance: ± 20%; Dielectric: X5R; Mounting: SMD; Part Type: MLCC
footprint CAPC1608N (Chip Capacitor, Body 1.6x0.8mm, Height 0.55mm, IPC Medium Density)
pins: 1, 2

## C1608X5R1A685K080AC
designator C?, comment 6.8uF
CAP MLCC, 6.8uF, 10V, 0603 [1608 Metric], ±10%, X5R; Manufacturer: TDK; Manufacturer Part Number: C1608X5R1A685K080AC; Value: 6.8uF; Package: 0603 [1608 Metric]; Supplier 1: Farnell; Supplier Part Number 1: 2211165; ComponentLink1Description: Datasheet; ComponentLink1URL: http://www.farnell.com/datasheets/2792994.pdf; Voltage: 10V; Tolerance: ± 10%; Dielectric: X5R; Mounting: SMD; Part Type: MLCC
footprint CAPC1608N (Chip Capacitor, Body 1.6x0.8mm, Height 0.55mm, IPC Medium Density)
pins: 1, 2

## C1608X5R1E155K080AB
designator C?, comment 1.5uF
CAP MLCC, 1.5uF, 25V, 0603 [1608 Metric], ±10%, X5R; Manufacturer: TDK; Manufacturer Part Number: C1608X5R1E155K080AB; Value: 1.5uF; Package: 0603 [1608 Metric]; Supplier 1: Farnell; Supplier Part Number 1: 2211176; ComponentLink1Description: Datasheet; ComponentLink1URL: http://www.farnell.com/datasheets/2792994.pdf; Voltage: 25V; Tolerance: ± 10%; Dielectric: X5R; Mounting: SMD; Part Type: MLCC
footprint CAPC1608N (Chip Capacitor, Body 1.6x0.8mm, Height 0.55mm, IPC Medium Density)
pins: 1, 2

## C1608X5R1V335K080AC
designator C?, comment 3.3uF
CAP MLCC, 3.3uF, 35V, 0603 [1608 Metric], ±10%, X5R; Manufacturer: TDK; Manufacturer Part Number: C1608X5R1V335K080AC; Voltage: 50V; Dielectric: X7R; Value: 3.3uF; Package: 0603 [1608 Metric]; Supplier 1: Farnell; Supplier Part Number 1: 3416108; ComponentLink1Description: Datasheet; ComponentLink1URL: http://www.farnell.com/datasheets/2859305.pdf; Tolerance: ± 10%; Mounting: SMD; Part Type: MLCC
footprint CAPC1608N (Chip Capacitor, Body 1.6x0.8mm, Height 0.55mm, IPC Medium Density)
pins: 1, 2

## C1608X7R1E684K080AB
designator C?, comment 680nF
CAP MLCC, 680nF, 25V, 0603 [1608 Metric], ±10%, X7R; Manufacturer: TDK; Manufacturer Part Number: C1608X7R1E684K080AB; Value: 680nF; Package: 0603 [1608 Metric]; Supplier 1: Farnell; Supplier Part Number 1: 2346905; ComponentLink1Description: http://www.farnell.com/datasheets/2792994.pdf; ComponentLink1URL: https://lt.farnell.com/tdk/c1608x7r1e684k080ab/cap-0-68-f-25v-10-x7r-0603/dp/2346905?st=cap%20mlcc,%20680nf,%2025v,%200603%20[1608%20metric],%20±10%25,%20x7r; Voltage: 25V; Tolerance: ± 10%; Dielectric: X7R; Mounting: SMD; Part Type: MLCC
footprint CAPC1608N (Chip Capacitor, Body 1.6x0.8mm, Height 0.55mm, IPC Medium Density)
pins: 1, 2

## C1608X7R1H103K080AA
designator C?, comment 10nF
CAP MLCC, 10nF, 50V, 0603 [1608 Metric], ±10%, X7R; Manufacturer: TDK; Manufacturer Part Number: C1608X7R1H103K080AA; Value: 10nF; Package: 0603 [1608 Metric]; Supplier 1: Farnell; Supplier Part Number 1: 1907315; ComponentLink1Description: Datasheet; ComponentLink1URL: http://www.farnell.com/datasheets/2792994.pdf; Voltage: 50V; Tolerance: ± 10%; Dielectric: X7R; Mounting: SMD; Part Type: MLCC
footprint CAPC1608N (Chip Capacitor, Body 1.6x0.8mm, Height 0.55mm, IPC Medium Density)
pins: 1, 2

## C2012C0G1V303J060AC
designator C?, comment 30nF
CAP MLCC, 30nF, 35V, 1206 [3216 metric], ±5%, C0G; Manufacturer: TDK; Manufacturer Part Number: C2012C0G1V303J060AC; Dielectric: C0G (NP0); Value: 30nF; Package: 1206 [3216 metric]; Supplier 1: Mouser; Supplier Part Number 1: 810-C2012C0G1V303JAC; ComponentLink1Description: Datasheet; ComponentLink1URL: https://eu.mouser.com/datasheet/2/40/X7RDielectric-777024.pdf; Date: 2021-03-04; Voltage: 35V; Tolerance: 5%; Mounting: SMD; Part Type: MLCC
footprint CAPC3216N (Chip Capacitor, Body 3.2x1.6mm, IPC Medium Density)
pins: 1, 2

## C2012X5R1V156M125AC
designator C?, comment 15uF
CAP MLCC, 15uF, 35V, 0805 [2012 Metric], ±20%, X5R; Manufacturer: TDK; Manufacturer Part Number: C2012X5R1V156M125AC; Value: 15uF; Package: 0805 [2012 Metric]; Supplier 1: Farnell; Supplier Part Number 1: 3416166; ComponentLink1Description: Datasheet; ComponentLink1URL: http://www.farnell.com/datasheets/2859305.pdf; Voltage: 35V; Tolerance: ± 20%; Dielectric: X5R; Mounting: SMD; Part Type: MLCC
footprint CAPC2012N (Chip Capacitor, Body 2.0x1.25mm, IPC Medium Density)
pins: 1, 2

## C2012X7R1H225K125AC
designator C?, comment 2.2µF
CAP MLCC, 2.2 µF, 50V, 0805 [2012 Metric], ± 10%, X7R, C Series; Manufacturer: TDK; Manufacturer Part Number: C2012X7R1H225K125AC; Value: 2.2µF; Package: 0805 [2012 Metric]; Supplier 1: Farnell; Supplier Part Number 1: 2346945; ComponentLink1Description: Datasheet; ComponentLink1URL: https://lt.farnell.com/tdk/c2012x7r1h225k125ac/cap-2-2-f-50v-10-x7r-0805/dp/2346945?st=capasitor; Voltage: 50V; Tolerance: ± 10%; Dielectric: X7R; Mounting: SMD; Part Type: MLCC
footprint CAPC2012N (Chip Capacitor, Body 2.0x1.25mm, IPC Medium Density)
pins: 1, 2

## C3216X5R1V156M160AC
designator C?, comment 15uF
CAP MLCC, 15uF, 35V, 1206 [3216 Metric], ±20%, X5R; Manufacturer: TDK; Manufacturer Part Number: C3216X5R1V156M160AC; Value: 15uF; Package: 1206 [3216 Metric]; Supplier 1: Farnell; Supplier Part Number 1: 3416223; ComponentLink1Description: Datasheet; ComponentLink1URL: http://www.farnell.com/datasheets/2859305.pdf; Voltage: 35V; Tolerance: ± 20%; Dielectric: X5R; Mounting: SMD; Part Type: MLCC
footprint CAPC3216N (Chip Capacitor, Body 3.2x1.6mm, IPC Medium Density)
pins: 1, 2

## C3216X7R2J223K130AA
designator C?, comment 22nF
CAP MLCC, 22nF, 630V, 1206 [3216 Metric], ±10%, X7R; Manufacturer: TDK; Manufacturer Part Number: C3216X7R2J223K130AA; Value: 22nF; Package: 1206 [3216 Metric]; Supplier 1: Farnell; Supplier Part Number 1: 2528786; ComponentLink1Description: Datasheet; ComponentLink1URL: https://4donline.ihs.com/images/VipMasterIC/IC/TDKC/TDKC-S-A0000596732/TDKC-S-A0000596732-1.pdf?hkey=52A5661711E402568146F3353EA87419; Voltage: 630V; Tolerance: ± 10%; Dielectric: X7R; Mounting: SMD; Part Type: MLCC
footprint CAPC3216N (Chip Capacitor, Body 3.2x1.6mm, IPC Medium Density)
pins: 1, 2

## CC0603KRX7R9BB183
designator C?, comment 18nF
CAP MLCC, 18nF, 50V, 0603 [1608 Metric], ± 10%, X7R, CC Series; Manufacturer: YAGEO; Manufacturer Part Number: CC0603KRX7R9BB183; Value: 18nF; Package: 0603 [1608 metric]; Supplier 1: Farnell; Supplier Part Number 1: 3019743; ComponentLink1Description: http://www.farnell.com/datasheets/2167236.pdf; ComponentLink1URL: https://lt.farnell.com/yageo/cc0603krx7r9bb183/cap-0-018-f-50v-10-x7r-0603/dp/3019743?ost=3019743&iscrfnonsku=false; Voltage: 50V; Tolerance: ± 10%; Dielectric: X7R; Mounting: SMD; Part Type: MLCC
footprint CAPC1608N (Chip Capacitor, Body 1.6x0.8mm, Height 0.55mm, IPC Medium Density)
pins: 1, 2

## CC0805KKX7R8BB225
designator C?, comment 2.2uF
CAP MLCC, 2.2uF 25V, 0805 [2012 Metric], ±10%, X7R; Manufacturer: YAGEO; Manufacturer Part Number: CC0805KKX7R8BB225; Value: 2.2uF; Package: 0805 [2012 Metric]; Supplier 1: Farnell; Supplier Part Number 1: 1458904; ComponentLink1Description: Datasheet; ComponentLink1URL: http://www.farnell.com/datasheets/2167236.pdf; Voltage: 25V; Tolerance: ± 10%; Dielectric: X7R; Mounting: SMD; Part Type: MLCC
footprint CAPC2012N (Chip Capacitor, Body 2.0x1.25mm, IPC Medium Density)
pins: 1, 2

## CGA4J1X7R1V335K125AC
designator C?, comment 3.3uF
CAP MLCC, 3.3uF, 35V, 0805 [2012 Metric], ±10%, X7R; Manufacturer: TDK; Manufacturer Part Number: CGA4J1X7R1V335K125AC; Value: 3.3uF; Package: 0805 [2012 Metric]; Supplier 1: Farnell; Supplier Part Number 1: 3490076; ComponentLink1Description: Datasheet; ComponentLink1URL: http://www.farnell.com/datasheets/2915229.pdf; Voltage: 35V; Tolerance: ± 10%; Dielectric: X7R; Mounting: SMD; Part Type: MLCC
footprint CAPC2012N (Chip Capacitor, Body 2.0x1.25mm, IPC Medium Density)
pins: 1, 2

## CGA4J3X5R1H335K125AB
designator C?, comment 3.3uF
CAP MLCC, 3.3uF, 50V, 0805 [2012 Metric], ±10%, X5R; Manufacturer: TDK; Manufacturer Part Number: CGA4J3X5R1H335K125AB; Value: 3.3uF; Package: 0805 [2012 Metric]; Supplier 1: Farnell; Supplier Part Number 1: 2210978; ComponentLink1Description: Datasheet; ComponentLink1URL: http://www.farnell.com/datasheets/1807242.pdf; Voltage: 50V; Tolerance: ± 10%; Dielectric: X5R; Mounting: SMD; Part Type: MLCC
footprint CAPC2012N (Chip Capacitor, Body 2.0x1.25mm, IPC Medium Density)
pins: 1, 2

## CGA4J3X7R1E155K125AB
designator C?, comment 1.5uF
CAP MLCC, 1.5uF, 25V, 0805 [2012 Metric], ±10%, X7R; Manufacturer: TDK; Manufacturer Part Number: CGA4J3X7R1E155K125AB; Value: 1.5uF; Package: 0805 [2012 Metric]; Supplier 1: Farnell; Supplier Part Number 1: 3490095; ComponentLink1Description: Datasheet; ComponentLink1URL: http://www.farnell.com/datasheets/2915229.pdf; Voltage: 25V; Tolerance: ± 10%; Dielectric: X7R; Mounting: SMD; Part Type: MLCC
footprint CAPC2012N (Chip Capacitor, Body 2.0x1.25mm, IPC Medium Density)
pins: 1, 2

## CGA5L1X7R1V335K160AC
designator C?, comment 3.3uF
CAP MLCC, 3.3uF, 35V, 1206 [3216 Metric], ± 10%, X7R; Manufacturer: TDK; Manufacturer Part Number: CGA5L1X7R1V335K160AC; Value: 3.3uF; Package: 1206 [3216 Metric]; Supplier 1: Farnell; Supplier Part Number 1: 3651375RL; ComponentLink1Description: Datasheet; ComponentLink1URL: http://www.farnell.com/datasheets/3184188.pdf; Voltage: 35V; Tolerance: ± 10%; Dielectric: X7R; Mounting: SMD; Part Type: MLCC
footprint CAPC3216N (Chip Capacitor, Body 3.2x1.6mm, IPC Medium Density)
pins: 1, 2

## CL21B104KACNNNC
designator C?, comment 100nF
CAP MLCC, 100nF, 25V, 0805 [2012 Metric], ±10%, X7R; Manufacturer: SAMSUNG ELECTRO-MECHANICS; Manufacturer Part Number: CL21B104KACNNNC; Value: 100nF; Package: 0805 [2012 Metric]; Supplier 1: Farnell; Supplier Part Number 1: 3010149; ComponentLink1Description: Datasheet; ComponentLink1URL: http://www.farnell.com/datasheets/2710651.pdf; Voltage: 25V; Tolerance: ± 10%; Dielectric: X7R; Mounting: SMD; Part Type: MLCC
footprint CAPC2012N (Chip Capacitor, Body 2.0x1.25mm, IPC Medium Density)
pins: 1, 2

## GCM31CR71H225KA55K
designator C?, comment 2.2uF
CAP MLCC, 2.2uF, 50V, 1206 [3216 Metric], ±10%, X7R; Manufacturer: MURATA; Manufacturer Part Number: GCM31CR71H225KA55K; Value: 2.2uF; Package: 1206 [3216 Metric]; Supplier 1: Farnell; Supplier Part Number 1: 2688488; ComponentLink1Description: Datasheet; ComponentLink1URL: https://4donline.ihs.com/images/VipMasterIC/IC/MURE/MURE-S-A0010578466/MURE-S-A0010578330-1.pdf?hkey=6D3A4C79FDBF58556ACFDE234799DDF0; Voltage: 50V; Tolerance: ± 10%; Dielectric: X7R; Mounting: SMD; Part Type: MLCC
footprint CAPC3216N (Chip Capacitor, Body 3.2x1.6mm, IPC Medium Density)
pins: 1, 2

## GCM2195C1H123JA16D
designator C?, comment 12nF
CAP MLCC, 12nF, 50V, 0805 [2012 Metric], ±5%, C0G / NP0; Manufacturer: MURATA; Manufacturer Part Number: GCM2195C1H123JA16D; Value: 12nF; Package: 0805 [2012 Metric]; Supplier 1: Farnell; Supplier Part Number 1: 2218703; ComponentLink1Description: Datasheet; ComponentLink1URL: https://lt.farnell.com/murata/gcm2195c1h123ja16d/cap-12000pf-50v-5-c0g-np0-0805/dp/2218703?st=0805; Voltage: 50V; Tolerance: ± 5%; Dielectric: C0G / NP0; Mounting: SMD; Part Type: MLCC
footprint CAPC2012N (Chip Capacitor, Body 2.0x1.25mm, IPC Medium Density)
pins: 1, 2

## GCM2195C1H133JA16D
designator C?, comment 13nF
CAP MLCC, 13nF, 50V, 0805 [2012 Metric], ±5%, C0G (NP0); Manufacturer: Murata Electronics; Manufacturer Part Number: GCM2195C1H133JA16D; Value: 13nF; Package: 0805 [2012 Metric]; Supplier 1: Mouser; Supplier Part Number 1: 81-GCM2195C1H133JA6D; ComponentLink1Description: https://eu.mouser.com/datasheet/2/281/GCM2195C1H133JA16_01-1968110.pdf; ComponentLink1URL: https://eu.mouser.com/ProductDetail/Murata-Electronics/GCM2195C1H133JA16D/?qs=hNud%2FORuBR2X2UyW%252B6zWEA%3D%3D; Voltage: 50V; Tolerance: ± 5%; Dielectric: C0G (NP0); Mounting: SMD; Part Type: MLCC
footprint CAPC2012N (Chip Capacitor, Body 2.0x1.25mm, IPC Medium Density)
pins: 1, 2

## GCM3195G1H133JA16D
designator C?, comment 13nF
CAP MLCC, 13nF, 50V, 1206 [3216 Metric], ±5%, X8G; Manufacturer: Murata Electronics; Manufacturer Part Number: GCM3195G1H133JA16D; Value: 13nF; Package: 1206 [3216 Metric]; Supplier 1: Mouser; Supplier Part Number 1: 81-GCM3195G1H133JA6D; ComponentLink1Description: Datasheet https://eu.mouser.com/datasheet/2/281/GCM3195G1H133JA16_01-1969102.pdf; ComponentLink1URL: https://eu.mouser.com/ProductDetail/Murata-Electronics/GCM3195G1H133JA16D/?qs=QzBtWTOodeXbZr9O%252BNcRtQ%3D%3D; Voltage: 50V; Tolerance: ± 5%; Dielectric: X8G; Mounting: SMD; Part Type: MLCC
footprint CAPC3216N (Chip Capacitor, Body 3.2x1.6mm, IPC Medium Density)
pins: 1, 2

## GRM21A5C2D120JW01D
designator C?, comment 12pF
CAP MLCC, 12pF, 200V, 0805 [2012 Metric], ±5%, X7R; Manufacturer: MURATA; Manufacturer Part Number: GRM21A5C2D120JW01D; Dielectric: C0G / NP0; Value: 12pF; Package: 0805 [2012 Metric]; Supplier 1: Farnell; Supplier Part Number 1: 3340789; ComponentLink1Description: http://www.farnell.com/datasheets/2891920.pdf; ComponentLink1URL: https://lt.farnell.com/murata/grm21a5c2d120jw01d/cap-12pf-200v-mlcc-0805/dp/3340789; Voltage: 200V; Tolerance: ± 5%; Mounting: SMD; Part Type: MLCC
footprint CAPC2012N (Chip Capacitor, Body 2.0x1.25mm, IPC Medium Density)
pins: 1, 2

## GRM21B7U1H433JA01L
designator C?, comment 43nF
CAP MLCC, 43nF, 50V, 0805 [2012 Metric], ±5%, U2J; Manufacturer: Murata Electronics; Manufacturer Part Number: GRM21B7U1H433JA01L; Value: 43nF; Package: 0805 [2012 metric]; Supplier 1: Mouser; Supplier Part Number 1: 81-GRM21B7U1H433JA1L; ComponentLink1Description: Datasheet; ComponentLink1URL: https://eu.mouser.com/ProductDetail/Murata-Electronics/GRM21B7U1H433JA01L?qs=%2Fha2pyFadugq0yC%2Fv5omHVaXsdBO7m4YdPKSVQ74jnl4u6oYo7mORIfRxYtc1AKh&utm_source=octopart&utm_medium=aggregator&utm_campaign=81-GRM21B7U1H433JA1L&utm_content=Murata; Voltage: 50 V; Tolerance: 5 %; Dielectric: U2J; Mounting: SMD; Part Type: MLCC
footprint CAPC2012N (Chip Capacitor, Body 2.0x1.25mm, IPC Medium Density)
pins: 1, 2

## GRM31A5C2H150JW01D
designator C?, comment 15pF
CAP MLCC, 15pF, 25V, 1206 [3216 Metric], ±5%, X7R; Manufacturer: MURATA; Manufacturer Part Number: GRM31A5C2H150JW01D; Voltage: 500V; Dielectric: C0G / NP0; Value: 15pF; Package: 1206 [3216 Metric]; Supplier 1: Farnell; Supplier Part Number 1: 3340795; ComponentLink1Description: http://www.farnell.com/datasheets/2891925.pdf; ComponentLink1URL: https://lt.farnell.com/murata/grm31a5c2h150jw01d/cap-15pf-500v-mlcc-1206/dp/3340795; Tolerance: ± 5%; Mounting: SMD; Part Type: MLCC
footprint CAPC3216N (Chip Capacitor, Body 3.2x1.6mm, IPC Medium Density)
pins: 1, 2

## GRM188R61H225KE11D
designator C?, comment 2.2µF
CAP MLCC, 2.2 µF, 50V, 0603 [1608 Metric], ± 10%, X5R, GRM Series; Manufacturer: MURATA; Manufacturer Part Number: GRM188R61H225KE11D; Value: 2.2µF; Package: 0603 [1608 Metric]; Supplier 1: Farnell; Supplier Part Number 1: 2611925; ComponentLink1Description: Datasheet; ComponentLink1URL: https://lt.farnell.com/murata/grm188r61h225ke11d/cap-2-2-f-50v-10-x5r-0603/dp/2611925?st=capasitor; Voltage: 50V; Tolerance: ± 10%; Dielectric: X5R; Mounting: SMD; Part Type: MLCC
footprint CAPC1608N (Chip Capacitor, Body 1.6x0.8mm, Height 0.55mm, IPC Medium Density)
pins: 1, 2

## GRM188Z71C225KE43D
designator C?, comment 2.2uF
CAP MLCC, 2.2uF, 16V, 0603 [1608 Metric], ±10%, X7R; Manufacturer: MURATA; Manufacturer Part Number: GRM188Z71C225KE43D; Value: 2.2uF; Package: 0603 [1608 Metric]; Supplier 1: Farnell; Supplier Part Number 1: 3581383; ComponentLink1Description: Datasheet; ComponentLink1URL: https://4donline.ihs.com/images/VipMasterIC/IC/MURE/MURE-S-A0010565743/MURE-S-A0010565293-1.pdf?hkey=6D3A4C79FDBF58556ACFDE234799DDF0; Voltage: 16V; Tolerance: ± 10%; Dielectric: X7R; Mounting: SMD; Part Type: MLCC
footprint CAPC1608N (Chip Capacitor, Body 1.6x0.8mm, Height 0.55mm, IPC Medium Density)
pins: 1, 2

## GRM1865CYA303GA11D
designator C?, comment 30nF
CAP MLCC, 30nF, 35V, 0603 [1608 metric], ±2%, C0G; Manufacturer: Murata Electronics; Manufacturer Part Number: GRM1865CYA303GA11D; Dielectric: C0G (NP0); Value: 30nF; Package: 0603 [1608 metric]; Supplier 1: Mouser; Supplier Part Number 1: 81-GRM1865CYA303GA1D; ComponentLink1Description: Datasheet; ComponentLink1URL: https://eu.mouser.com/datasheet/2/281/murata_03052018_GRM_Series_1-1310166.pdf; Date: 2021-03-01; Voltage: 35V; Tolerance: 2%; Mounting: SMD; Part Type: MLCC
footprint CAPC1608N (Chip Capacitor, Body 1.6x0.8mm, Height 0.55mm, IPC Medium Density)
pins: 1, 2

## GRM1885C1H1R2CA01D
designator C?, comment 1.2pF
CAP MLCC, 1.2pF, 50V, 0603 [1608 Metric], ±0.25pF, X7R; Manufacturer: MULTICOMP; Manufacturer Part Number: GRM1885C1H1R2CA01D; Dielectric: C0G / NP0; Value: 1.2pF; Package: 0603 [1608 Metric]; Supplier 1: Farnell; Supplier Part Number 1: 2494217; ComponentLink1Description: http://www.farnell.com/datasheets/1955666.pdf; ComponentLink1URL: https://lt.farnell.com/murata/grm1885c1h1r2ca01d/cap-1-2pf-50v-c0g-np0-0603/dp/2494217; Voltage: 50V; Tolerance: ± 0.25pF; Mounting: SMD; Part Type: MLCC
footprint CAPC1608N (Chip Capacitor, Body 1.6x0.8mm, Height 0.55mm, IPC Medium Density)
pins: 1, 2

## GRM1885C1H122JA01D
designator C?, comment 1.2nF
CAP MLCC, 1.2nF, 50V, 0603 [1608 Metric], ±5%, C0G / NP0; Manufacturer: MURATA; Manufacturer Part Number: GRM1885C1H122JA01D; Value: 1.2nF; Package: 0603 [1608 Metric]; Supplier 1: Farnell; Supplier Part Number 1: 2688627; ComponentLink1Description: Datasheet; ComponentLink1URL: http://www.farnell.com/datasheets/2191627.pdf; Voltage: 50V; Tolerance: ± 5%; Dielectric: C0G / NP0; Mounting: SMD; Part Type: MLCC
footprint CAPC1608N (Chip Capacitor, Body 1.6x0.8mm, Height 0.55mm, IPC Medium Density)
pins: 1, 2

## GRM1885C1H162JA01D
designator C?, comment 1.6nF
CAP MLCC, 1.6nF, 50V, 0603 [1608 Metric], ±5%, C0G / NP0; Manufacturer: MURATA; Manufacturer Part Number: GRM1885C1H162JA01D; Value: 1.6nF; Package: 0603 [1608 Metric]; Supplier 1: Farnell; Supplier Part Number 1: 3582826; ComponentLink1Description: Datasheet; ComponentLink1URL: https://4donline.ihs.com/images/VipMasterIC/IC/MURE/MURE-S-A0010570236/MURE-S-A0010570623-1.pdf?hkey=6D3A4C79FDBF58556ACFDE234799DDF0; Voltage: 50V; Tolerance: ± 5%; Dielectric: C0G / NP0; Mounting: SMD; Part Type: MLCC
footprint CAPC1608N (Chip Capacitor, Body 1.6x0.8mm, Height 0.55mm, IPC Medium Density)
pins: 1, 2

## GRM1887U1A243JA01D
designator C?, comment 24nF
CAP MLCC, 24nF, 100V, 0603 [1608 Metric], ±5%, U2J; Manufacturer: Murata Electronics; Manufacturer Part Number: GRM1887U1A243JA01D; Voltage: 10V; Value: 24nF; Package: 0603 [1608 Metric]; Supplier 1: Mouser; Supplier Part Number 1: 81-GRM1887U1A243JA1D; ComponentLink1Description: Datasheet; ComponentLink1URL: https://eu.mouser.com/ProductDetail/Murata-Electronics/GRM1887U1A243JA01D/?qs=ui%252B2d9lVEI5YGHIEW3U78Q%3D%3D; Tolerance: ± 5%; Dielectric: U2J; Mounting: SMD; Part Type: MLCC
footprint CAPC1608N (Footprint not found)
pins: 1, 2

## GRM2165C1H432JA01D
designator C?, comment 4.3nF
CAP MLCC, 4.3nF, 250V, 0805 [2012 Metric], ±5%, C0G / NP0; Manufacturer: MURATA; Manufacturer Part Number: GRM2165C1H432JA01D; Voltage: 50V; Value: 4.3nF; Package: 0805 [2012 Metric]; Supplier 1: Farnell; Supplier Part Number 1: 3581388; ComponentLink1Description: Datasheet; ComponentLink1URL: https://4donline.ihs.com/images/VipMasterIC/IC/MURE/MURE-S-A0010861478/MURE-S-A0010860847-1.pdf?hkey=6D3A4C79FDBF58556ACFDE234799DDF0; Tolerance: ± 5%; Dielectric: C0G / NP0; Mounting: SMD; Part Type: MLCC
footprint CAPC2012N (Chip Capacitor, Body 2.0x1.25mm, IPC Medium Density)
pins: 1, 2

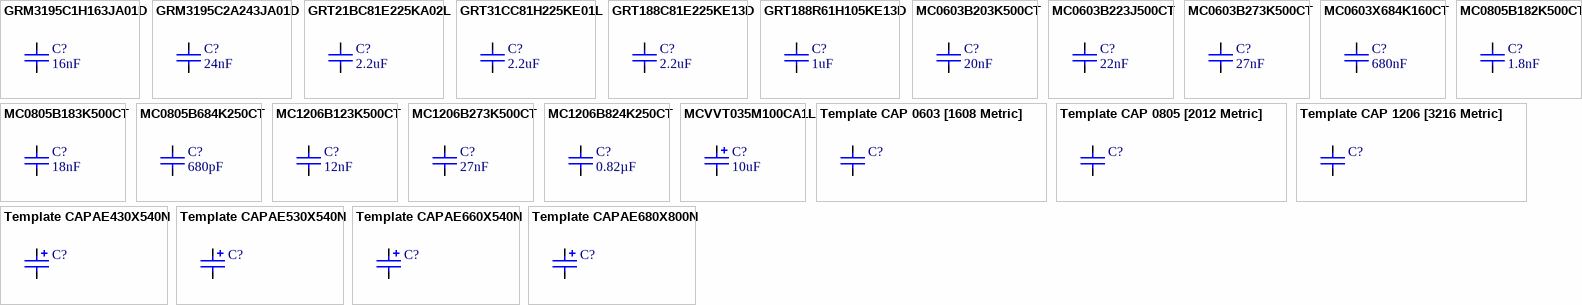
[diagram p2: symbols GRM3195C1H163JA01D to Template CAPAE680X800N]

## GRM3195C1H163JA01D
designator C?, comment 16nF
CAP MLCC, 16nF, 25V, 1206 [3216 metric], ±5%, C0G (NP0); Manufacturer: Murata Electronics; Manufacturer Part Number: GRM3195C1H163JA01D; Voltage: 50V; Value: 16nF; Package: 1206 [3216 metric]; Supplier 1: Mouser; Supplier Part Number 1: 81-GRM3195C1H163JA1D; ComponentLink1Description: Datasheet; ComponentLink1URL: https://eu.mouser.com/ProductDetail/Murata-Electronics/GRM3195C1H163JA01D/?qs=h0WOCFF19UJX1ximIlpUQQ%3D%3D; Tolerance: ±5%; Dielectric: C0G (NP0)
footprint CAPC3216N (Chip Capacitor, Body 3.2x1.6mm, IPC Medium Density)
pins: 1, 2

## GRM3195C2A243JA01D
designator C?, comment 24nF
CAP MLCC, 24nF, 100V, 1206 [3216 Metric], ± 5%, C0G (NP0); Manufacturer: Murata; Manufacturer Part Number: GRM3195C2A243JA01D; Value: 24nF; Package: 1206 [3216 Metric]; Supplier 1: Mouser; Supplier Part Number 1: 81-GRM3195C2A243JA1D; ComponentLink1Description: Datasheet; ComponentLink1URL: https://eu.mouser.com/ProductDetail/Murata-Electronics/GRM3195C2A243JA01D/?qs=qkDYIeTQ%252BEk%2Fn3fDsYoCdQ%3D%3D; Voltage: 100V; Tolerance: ± 5%; Dielectric: C0G (NP0); Mounting: SMD; Part Type: MLCC
footprint CAPC3216N (Footprint not found)
pins: 1, 2

## GRT21BC81E225KA02L
designator C?, comment 2.2uF
CAP MLCC, 2.2uF, 25V, 0805 [2012 Metric], ±10%, X6S; Manufacturer: MURATA; Manufacturer Part Number: GRT21BC81E225KA02L; Value: 2.2uF; Package: 0805 [2012 Metric]; Supplier 1: Farnell; Supplier Part Number 1: 2672181RL; ComponentLink1Description: Datasheet; ComponentLink1URL: http://www.farnell.com/datasheets/2165980.pdf; Voltage: 25V; Tolerance: ± 10%; Dielectric: X6S; Mounting: SMD; Part Type: MLCC
footprint CAPC2012N (Chip Capacitor, Body 2.0x1.25mm, IPC Medium Density)
pins: 1, 2

## GRT31CC81H225KE01L
designator C?, comment 2.2uF
CAP MLCC, 2.2uF, 50V, 1206 [3216 Metric], ±10%, X6S; Manufacturer: MURATA; Manufacturer Part Number: GRT31CC81H225KE01L; Value: 2.2uF; Package: 1206 [3216 Metric]; Supplier 1: Farnell; Supplier Part Number 1: 2672206; ComponentLink1Description: Datasheet; ComponentLink1URL: http://www.farnell.com/datasheets/2166004.pdf; Voltage: 50V; Tolerance: ± 10%; Dielectric: X6S; Mounting: SMD; Part Type: MLCC
footprint CAPC3216N (Chip Capacitor, Body 3.2x1.6mm, IPC Medium Density)
pins: 1, 2